# Altium footprint library Misc.PcbLib: 150 footprints (part 7 of 10)
Each footprint in its own frame and in the unit in brackets; x right, y up, seen from the top. Pads: shape width x height; smd on the part's side, far side on the other; paste and mask are expansions set on the pad; w line width, h text height; cw(c..) or ccw(c..) is an arc to the next point about the centre after c.
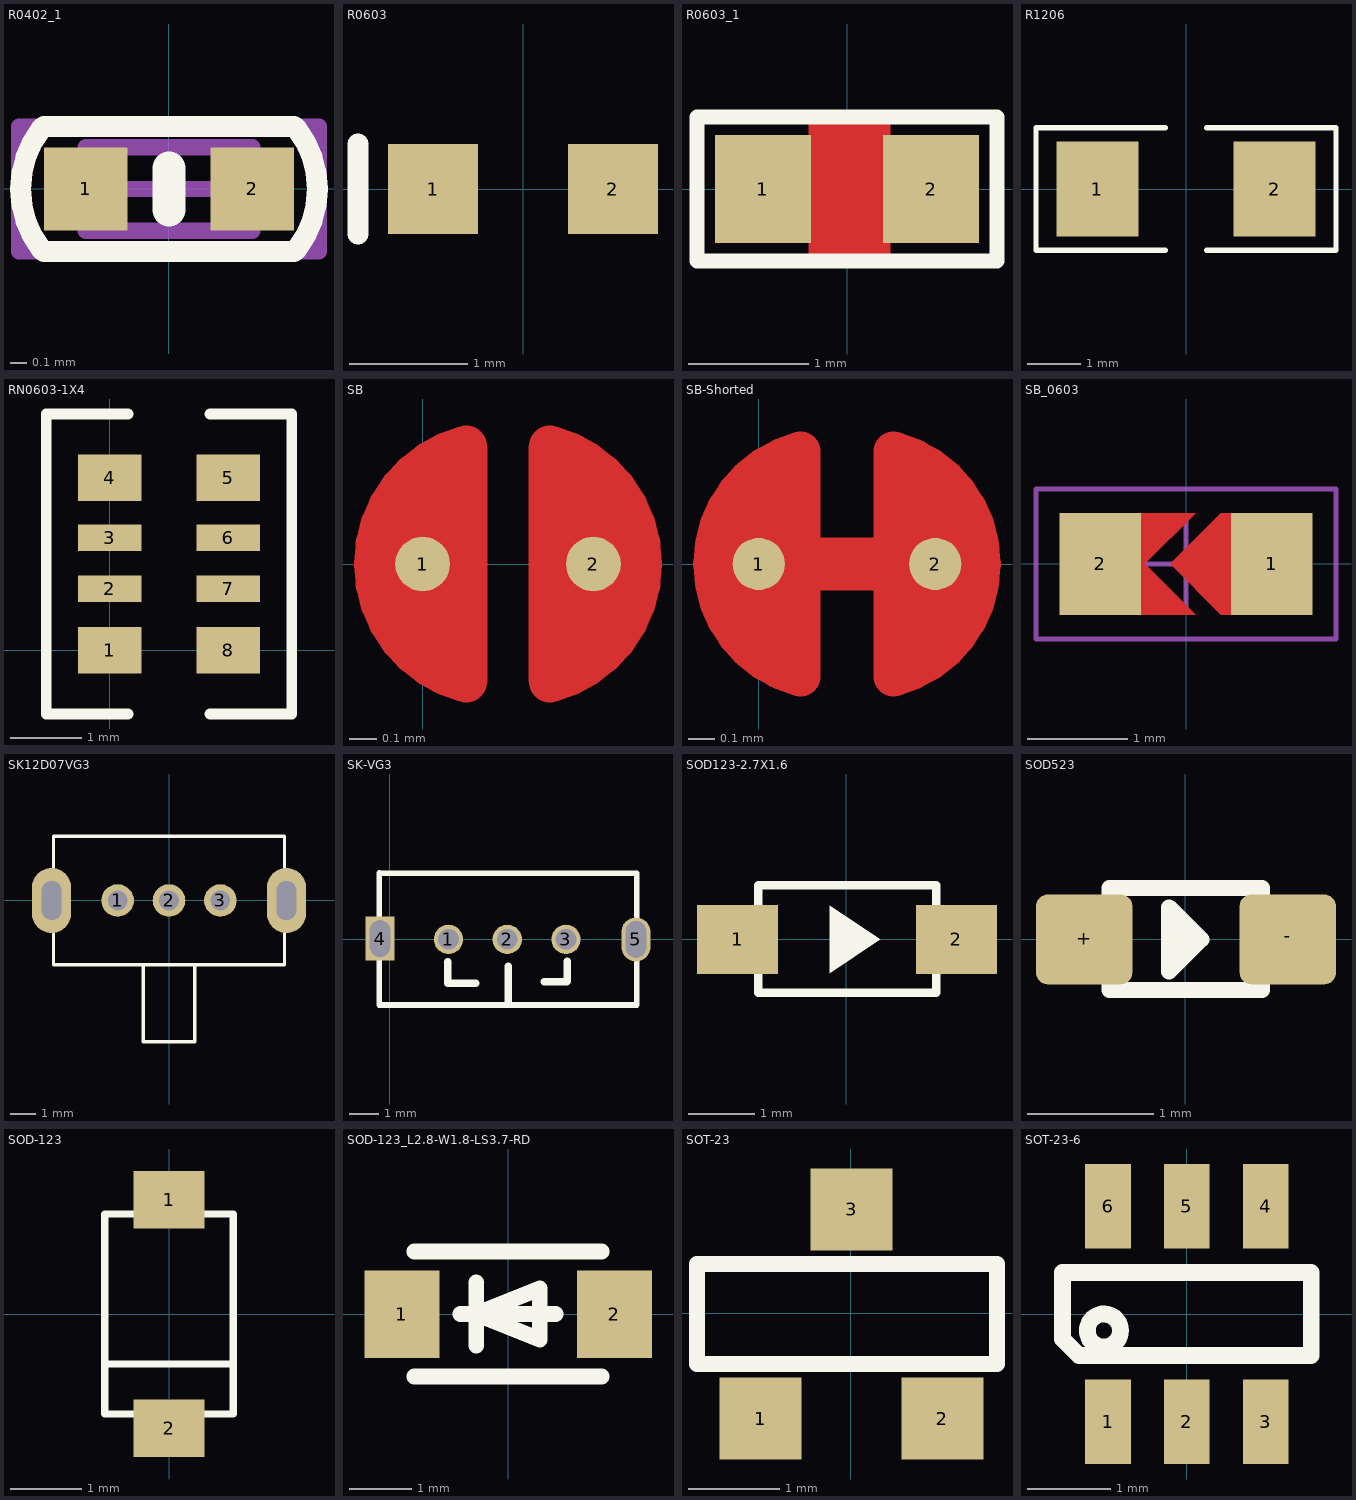
[diagram p6: the footprints below, top view; thin cyan lines are the x and y axes]

## R0402_1 [mil] "Surface mount resistor 0402"
height 11.81
pads (2):
  rect 20x20 smd: 1(-20,0) 2(20,0)
Top Overlay:
  lines w5: -30.54,-14.64 cw(c-12,0) -30.54,14.64 ; -30,-15 30,-15 ; -30,15 30,15 ; 30.54,-14.64 ccw(c12,0) 30.54,14.64
  lines w8: 0,-5 0,5
Mechanical 13:
  lines w3.94: -20,-10 -20,10 20,10 20,-10 -20,-10
Mechanical 15:
  lines w3.94: -10,0 10,0 ; 0,-10 0,10 ; -36,-15 -36,15 36,15 36,-15 -36,-15
3D body: height 20.1, standoff 0, extent -20,-10 20,10

## R0603 [mil]
pads (2):
  rect 30x30 smd: 1(-30,0) 2(30,0)
Top Overlay:
  lines w7: -55,-15 -55,15
3D body: height 17.72, standoff 0, extent -31,-16 32,15.5

## R0603_1 [mil]
height 31
pads (2):
  rect 31.5x35.4 smd: 1(-27.56,0) 2(27.56,0)
Top Layer:
  pour cut-out: -12.6,22.44 14.17,22.44 14.17,-23.23 -12.6,-23.23
Top Overlay:
  lines w5: -49.21,-23.62 49.21,-23.62 49.21,23.62 -49.21,23.62 -49.21,-23.62

## R1206 [mil]
height 153.54
pads (2):
  rect 60x70 smd: 1(-65,0) 2(65,0)
Top Overlay:
  lines w3.94: -15,-45 -110,-45 -110,45 -15,45 ; 15,-45 110,-45 110,45 15,45
3D body: height 23.62, standoff 0, extent -62.5,-31 63.49,32

## RN0603-1X4 [mil]
height 200
pads (8):
  rect 35x25.59 smd: 1(0,0) 4(0,95) 5(65,95) 8(65,0)
  rect 35x14.57 smd: 2(0,33.86) 3(0,62) 6(65,62) 7(65,33.86)
Top Overlay:
  lines w6: -35,120 -35,130 -10,130 10,130 ; -35,125 -35,-35 10,-35 ; 55,-35 100,-35 100,125 100,130 55,130

## SB [mm]
pads (2):
  round 0.2 smd paste-10: 1(0,0) 2(0.625,0)
Top Layer:
  region: 0.389,0.432 0.465,0.505 0.583,0.467 0.648,0.424 0.721,0.351 0.775,0.292 0.833,0.193 0.861,0.099 0.856,-0.122 0.831,-0.193 0.747,-0.33 0.663,-0.411 0.571,-0.469 0.47,-0.5 0.419,-0.483 0.389,-0.43
  region: 0.236,-0.432 0.16,-0.505 0.042,-0.467 -0.023,-0.424 -0.097,-0.351 -0.15,-0.292 -0.208,-0.193 -0.236,-0.099 -0.231,0.122 -0.206,0.193 -0.122,0.33 -0.038,0.411 0.054,0.469 0.155,0.5 0.206,0.483 0.236,0.43
  lines w0.152: 0.159,-0.431 cw(c0.27,0) 0.159,0.431 ; 0.465,-0.431 ccw(c0.355,0) 0.465,0.431
Top Solder:
  circle w0.61: c0.31,0 r0.279

## SB-Shorted [mm]
pads (2):
  round 0.2 smd paste-10: 1(0,0) 2(0.676,0)
Top Layer:
  region: 0.44,0.432 0.516,0.505 0.634,0.467 0.699,0.424 0.772,0.351 0.826,0.292 0.884,0.193 0.912,0.099 0.907,-0.122 0.881,-0.193 0.798,-0.33 0.714,-0.411 0.622,-0.469 0.521,-0.5 0.47,-0.483 0.44,-0.43
  region: 0.236,-0.432 0.16,-0.505 0.042,-0.467 -0.023,-0.424 -0.097,-0.351 -0.15,-0.292 -0.208,-0.193 -0.236,-0.099 -0.231,0.122 -0.206,0.193 -0.122,0.33 -0.038,0.411 0.054,0.469 0.155,0.5 0.206,0.483 0.236,0.43
  lines w0.152: 0.159,-0.431 cw(c0.27,0) 0.159,0.431 ; 0.516,-0.431 ccw(c0.406,0) 0.516,0.431
  lines w0.203: 0,0 0.676,0
Top Solder:
  circle w0.61: c0.31,0 r0.279
  circle w0.61: c0.366,0 r0.279

## SB_0603 [mil] "Jumper"
pads (2):
  rect 32x40 smd: 1(33.75,0) 2(-33.75,0)
Top Layer:
  region: -26.25,0 -16.25,0 3.75,-20 -26.25,-20
  region: -26.25,0 -16.25,0 3.75,20 -26.25,20
  region: 23.75,20 13.75,20 -6.25,0 13.75,-20 23.75,-20
Top Paste:
  region: -26.25,0 -16.25,0 3.75,-20 -26.25,-20
  region: -26.25,0 -16.25,0 3.75,20 -26.25,20
  region: 23.75,20 13.75,20 -6.25,0 13.75,-20 23.75,-20
Top Solder:
  region: -26.25,0 -12.25,0 11.75,-24 -26.25,-24
  region: -26.25,0 -12.25,0 11.75,24 -26.25,24
  region: 23.75,24 13.75,24 -10.25,0 13.75,-24 23.75,-24
Mechanical 15:
  lines w1.97: -18.7,0 18.7,0 ; 0,-18.7 0,18.7 ; -59.06,-29.53 59.06,-29.53 59.06,29.53 -59.06,29.53 -59.06,-29.53

## SK12D07VG3 [mil]
pads (5):
  round 50 hole 30: 1(-78.74,0) 2(0,0) 3(78.74,0)
  oval 60x100 hole 30 slot 60 at 90 deg: ""(-180,0) ""(180,0)
Top Overlay:
  lines w5: -39.37,-98.43 -39.37,-216.54 39.37,-216.54 39.37,-98.43 ; 177.17,-98.42 -177.17,-98.43 -177.17,98.42 -177.17,98.43 177.17,98.43 ; 177.17,-98.42 177.17,-98.42 ; 177.17,-98.42 177.17,98.43 ; 177.17,98.43 177.17,98.43

## SK-VG3 [mm] "8.7*4.5M"
pads (5):
  round 1 hole 0.7: 1(2,0) 2(4,0) 3(6,0)
  rect 1x1.5 hole 0.7 slot 1.25 at 90 deg: 4(-0.33,0.025)
  oval 1x1.5 hole 0.7 slot 1.25 at 90 deg: 5(8.382,0)
Top Overlay:
  lines w0.2: -0.356,2.25 8.407,2.25 8.407,-2.235 -0.356,-2.235 -0.356,2.261
  lines w0.254: 1.981,-0.762 1.981,-1.499 2.921,-1.499 ; 4.013,-2.184 4.039,-2.159 4.039,-0.914 ; 5.258,-1.448 6.02,-1.448 6.045,-1.422 6.045,-0.737

## SOD123-2.7X1.6 [mil] "SOD123-2.7X1.6"
pads (2):
  rect 48x41 smd: 1(-64.37,0) 2(65,0)
Top Overlay:
  region: -10,20 -10,-20 20,0
  lines w5: -52.17,-31.5 -52.17,32 53,32 53,-31.5 -52.17,-31.5
Mechanical 2:
Mechanical 4:

## SOD523 [mil] "SOD523"
pads (2):
  rrect25% 30x28 smd: +(-31.5,0) -(32,0)
Top Overlay:
  region: -5,10 5,0 -5,-10
  lines w5: -23.62,-15.75 24,-15.75 24,16 -23.62,16 -23.62,-15.75 ; -5,-10 -5,10 5,0 -5,-10
Mechanical 2:
Mechanical 4:
Mechanical 23:
  text ">name" at -26.38,-2.56 h15.5

## SOD-123 [mm]
pads (2):
  rect 1x0.8 smd: 1(0,1.6) 2(0,-1.6)
Top Overlay:
  lines w0.1: -0.85,-0.7 0.85,-0.7 ; -0.9,-1.4 -0.9,1.4 0.9,1.4 0.9,-1.4 -0.9,-1.4

## SOD-123_L2.8-W1.8-LS3.7-RD [mm]
pads (2):
  rect 1.2x1.4 smd: 1(-1.7,0) 2(1.7,0)
Top Overlay:
  lines w0.254: -1.5,-1 1.5,-1 ; -1.5,1 1.5,1 ; -0.762,0 0.762,0 ; -0.508,-0.508 -0.508,0.508 ; -0.508,0 0.508,0.406 0.508,-0.406 -0.508,0

## SOT-23 [mm]
pads (3):
  rect 0.9x0.9 smd: 1(-0.991,-1.161) 2(1.009,-1.161) 3(0.009,1.139)
Top Overlay:
  lines w0.178: -1.691,-0.561 1.609,-0.561 1.609,0.539 -1.691,0.539 -1.691,-0.561
3D body: height 1.3, standoff 0, extent -1.448,-1.397 1.452,1.403

## SOT-23-6 [mm]
pads (6):
  rect 0.55x1.016 smd: 1(-0.95,-1.3) 2(0,-1.3) 3(0.95,-1.3) 4(0.95,1.3) 5(0,1.3) 6(-0.95,1.3)
Top Overlay:
  circle w0.203: c-1,-0.2 r0.2
  lines w0.025: -1.52,-0.21 -1.52,0.27
  lines w0.203: -1.5,-0.3 -1.5,0.5 1.5,0.5 1.5,-0.5 -1.3,-0.5 -1.5,-0.3